# Altium schematic symbol library NetTie.SchLib: 1 symbol
Pins are listed as number, name and electrical type; pins without a type are passive.

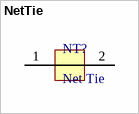
[diagram p0: symbol NetTie]

## NetTie
designator NT?, comment Net Tie  (net tie, no BOM)
footprint NetTie (Net Tie)
pins: 1, 2